# Altium integrated library SMD_CON_18.IntLib: 1 symbol
Pins are listed as number, name and electrical type; pins without a type are passive.

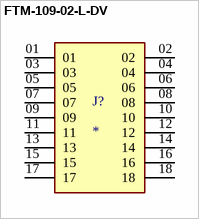
[diagram p0: symbol FTM-109-02-L-DV]

## FTM-109-02-L-DV
designator J?
MP: FTM-109-02-L-DV; Package: None; Price: None; Value: *; Availability: Unavailable
footprint SAMTEC_FTM-109-02-L-DV
pins: 01, 02, 03, 04, 05, 06, 07, 08, 09, 10, 11, 12, 13, 14, 15, 16, 17, 18